# Altium schematic symbol library RT_PC104-M7.SchLib: 50 symbols
Pins are listed as number, name and electrical type; pins without a type are passive.

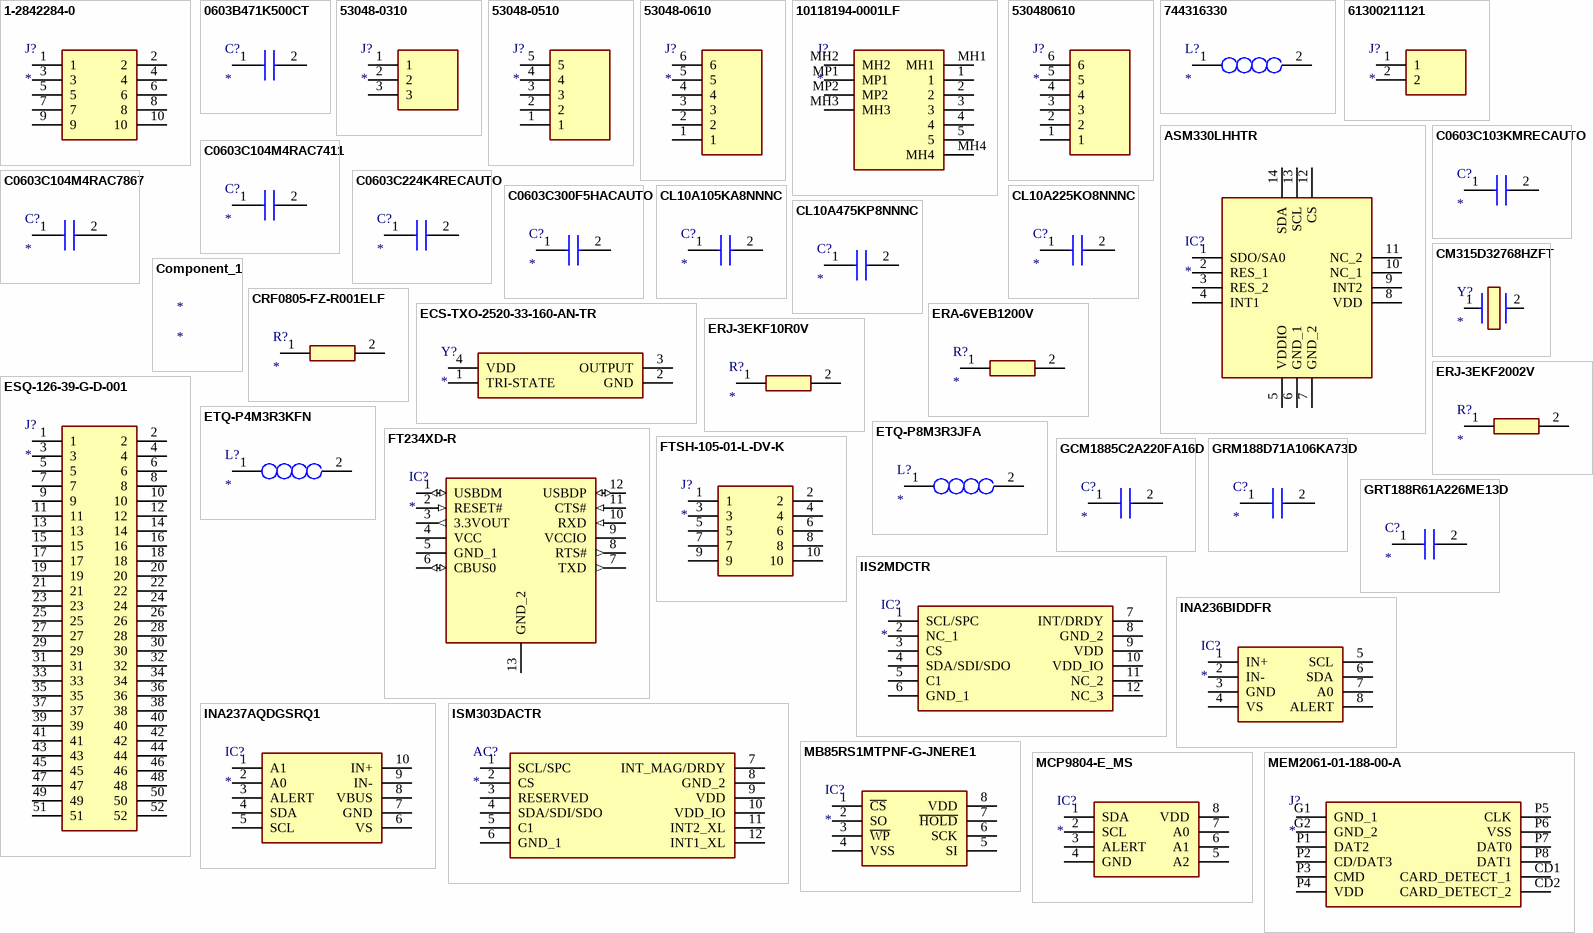
[diagram p0: symbols 1-2842284-0 to MEM2061-01-188-00-A]

## 1-2842284-0
designator J?
Connector; Manufacturer_Name: TE Connectivity; Manufacturer_Part_Number: 1-2842284-0; Datasheet Link: https://www.te.com/commerce/DocumentDelivery/DDEController?Action=showdoc&DocId=Customer+Drawing%7F2842284%7FA1%7Fpdf%7FEnglish%7FENG_CD_2842284_A1.pdf%7F1-2842284-0; Height: 6.25mm; Mouser Part Number: 571-1-2842284-0; Mouser Price/Stock: https://www.mouser.co.uk/ProductDetail/TE-Connectivity/1-2842284-0?qs=hWgE7mdIu5QFpUlt0%2FPFKA%3D%3D
footprint 128422840
pins: 1, 2, 3, 4, 5, 6, 7, 8, 9, 10

## 0603B471K500CT
designator C?
Capacitor; Manufacturer_Name: Walsin Technology Corporation; Manufacturer_Part_Number: 0603B471K500CT; Datasheet Link: https://g.componentsearchengine.com/Datasheets/2/0603B471K500CT.pdf; Height: 0.87mm; Arrow Part Number: 0603B471K500CT; Arrow Price/Stock: https://www.arrow.com/en/products/0603b471k500ct/walsin-technology
footprint CAPC1608X87N
pins: 1, 2

## 53048-0310
designator J?
Connector; Manufacturer_Name: Molex; Manufacturer_Part_Number: 53048-0310; Datasheet Link: https://www.molex.com/pdm_docs/sd/530481010_sd.pdf; Height: 3.5mm; Mouser Part Number: 538-53048-0310; Mouser Price/Stock: https://www.mouser.co.uk/ProductDetail/Molex/53048-0310?qs=zXrbR4Jv0OfUlEeVnlaifA%3D%3D
footprint SHDRRA3W35P0X125_1X3_550X550X350P
pins: 1, 2, 3

## 53048-0510
designator J?
Connector; Manufacturer_Name: Molex; Manufacturer_Part_Number: 53048-0510; Datasheet Link: https://componentsearchengine.com/Datasheets/2/53048-0510.pdf; Height: 3.7mm; Mouser Part Number: 538-53048-0510; Mouser Price/Stock: https://www.mouser.co.uk/ProductDetail/Molex/53048-0510?qs=nn26K2WaEYvXrn%2FdgEEqtg%3D%3D
footprint 530480510
pins: 1, 2, 3, 4, 5

## 53048-0610
designator J?
Connector; Manufacturer_Name: Molex; Manufacturer_Part_Number: 53048-0610; Datasheet Link: https://www.molex.com/pdm_docs/sd/530480610_sd.pdf; Height: 3.7mm; Mouser Part Number: 538-53048-0610; Mouser Price/Stock: https://www.mouser.co.uk/ProductDetail/Molex/53048-0610?qs=4XSMV6Twtb0hBXTOEHM3BQ%3D%3D; Arrow Part Number: 53048-0610; Arrow Price/Stock: https://www.arrow.com/en/products/53048-0610/molex?region=nac
footprint 530480610
pins: 1, 2, 3, 4, 5, 6

## 10118194-0001LF
designator J?
Connector; Manufacturer_Name: Amphenol Communications Solutions; Manufacturer_Part_Number: 10118194-0001LF; Datasheet Link: https://www.amphenol-cs.com/micro-usb-101181940001lf.html; Height: 3.25mm; Arrow Part Number: 10118194-0001LF; Arrow Price/Stock: https://www.arrow.com/en/products/10118194-0001lf/amphenol-fci?region=europe
footprint 101181940001LF
pins: 1, 2, 3, 4, 5, MH1, MH2, MH3, MH4, MP1, MP2

## 530480610
designator J?
Connector; Manufacturer_Name: Molex; Manufacturer_Part_Number: 530480610; Description: 1.25mm Pitch; Datasheet Link: https://www.molex.com/pdm_docs/sd/530480210_sd.pdf; Height: 3.5mm
footprint 530480610
pins: 1, 2, 3, 4, 5, 6

## 744316330
designator L?
Inductor; Manufacturer_Name: Wurth Elektronik; Manufacturer_Part_Number: 744316330; Datasheet Link: https://componentsearchengine.com/Datasheets/1/744316330.pdf; Height: 4.3mm; Mouser Part Number: 710-744316330; Mouser Price/Stock: https://www.mouser.co.uk/ProductDetail/Wurth-Elektronik/744316330?qs=%252B7BPNfeNhvX5azP5TkUELg%3D%3D
footprint INDPM5653X430N
pins: 1, 2

## 61300211121
designator J?
Connector; Manufacturer_Name: Wurth Elektronik; Manufacturer_Part_Number: 61300211121; Datasheet Link: https://componentsearchengine.com/Datasheets/2/61300211121.pdf; Height: 8.54mm; Mouser Part Number: 710-61300211121; Mouser Price/Stock: https://www.mouser.co.uk/ProductDetail/Wurth-Elektronik/61300211121?qs=t4813l51qx%252B1A5GYDQxPlw%3D%3D
footprint HDRV2W110P0X254_1X2_508X254X854P
pins: 1, 2

## ASM330LHHTR
designator IC?
Integrated Circuit; Manufacturer_Name: STMicroelectronics; Manufacturer_Part_Number: ASM330LHHTR; Datasheet Link: https://www.st.com/resource/en/datasheet/asm330lhh.pdf; Mouser Part Number: 511-ASM330LHHTR; Mouser Price/Stock: https://www.mouser.co.uk/ProductDetail/STMicroelectronics/ASM330LHHTR?qs=lc2O%252BfHJPVYgP8P9MzExKQ%3D%3D; Arrow Part Number: ASM330LHHTR; Arrow Price/Stock: https://www.arrow.com/en/products/asm330lhhtr/stmicroelectronics?region=nac
footprint LGA-14(2.5X3X0.86)
pins: 1 SDO/SA0, 2 RES_1, 3 RES_2, 4 INT1, 5 VDDIO, 6 GND_1, 7 GND_2, 8 VDD, 9 INT2, 10 NC_1, 11 NC_2, 12 CS, 13 SCL, 14 SDA

## C0603C103KMRECAUTO
designator C?
Capacitor; Manufacturer_Name: KEMET; Manufacturer_Part_Number: C0603C103KMRECAUTO; Datasheet Link: https://content.kemet.com/datasheets/KEM_C1090_X7R_ESD.pdf; Height: 0.87mm; Mouser Part Number: 80-C0603C103KMREAUTO; Mouser Price/Stock: https://www.mouser.co.uk/ProductDetail/KEMET/C0603C103KMRECAUTO?qs=u4fy%2FsgLU9P0r6p3bzZgfw%3D%3D; Arrow Part Number: C0603C103KMRECAUTO; Arrow Price/Stock: https://www.arrow.com/en/products/c0603c103kmrecauto/kemet-corporation?region=nac
footprint C0603
pins: 1, 2

## C0603C104M4RAC7411
designator C?
Capacitor; Manufacturer_Name: KEMET; Manufacturer_Part_Number: C0603C104M4RAC7411; Datasheet Link: https://content.kemet.com/datasheets/KEM_C1002_X7R_SMD.pdf; Height: 0.87mm; Mouser Part Number: 80-C0603C104M4R7411; Mouser Price/Stock: https://www.mouser.co.uk/ProductDetail/KEMET/C0603C104M4RAC7411?qs=jZ42y6hXG8kO8%252BQPc1qCZg%3D%3D; Arrow Part Number: C0603C104M4RAC7411; Arrow Price/Stock: https://www.arrow.com/en/products/c0603c104m4rac7411/kemet-corporation?region=nac
footprint C0603
pins: 1, 2

## C0603C104M4RAC7867
designator C?
Capacitor; Manufacturer_Name: KEMET; Manufacturer_Part_Number: C0603C104M4RAC7867; Datasheet Link: https://www.arrow.com/en/products/c0603c104m4rac7867/kemet-corporation?region=nac; Height: 0.95mm; Mouser Part Number: N/A; Mouser Price/Stock: https://www.mouser.co.uk/ProductDetail/KEMET/C0603C104M4RAC7867?qs=nAEW9fCjKd%252BI998RVtZhZQ%3D%3D; Arrow Part Number: C0603C104M4RAC7867; Arrow Price/Stock: https://www.arrow.com/en/products/c0603c104m4rac7867/kemet-corporation?region=europe
footprint CAPC1608X95N
pins: 1, 2

## C0603C224K4RECAUTO
designator C?
Capacitor; Manufacturer_Name: KEMET; Manufacturer_Part_Number: C0603C224K4RECAUTO; Datasheet Link: https://content.kemet.com/datasheets/KEM_C1090_X7R_ESD.pdf; Height: 0.87mm; Mouser Part Number: 80-C0603C224K4RECAUT; Mouser Price/Stock: https://www.mouser.co.uk/ProductDetail/KEMET/C0603C224K4RECAUTO?qs=MLItCLRbWszB36u3S8vAZQ%3D%3D; Arrow Part Number: C0603C224K4RECAUTO; Arrow Price/Stock: https://www.arrow.com/en/products/c0603c224k4recauto/kemet-corporation
footprint C0603
pins: 1, 2

## C0603C300F5HACAUTO
designator C?
Capacitor; Manufacturer_Name: KEMET; Manufacturer_Part_Number: C0603C300F5HACAUTO; Datasheet Link: https://content.kemet.com/datasheets/KEM_C1007_X8R_ULTRA_150C_SMD.pdf; Height: 0.87mm; Mouser Part Number: 80-C0603C300F5HAUTO; Mouser Price/Stock: https://www.mouser.com/Search/Refine.aspx?Keyword=80-C0603C300F5HAUTO
footprint C0603
pins: 1, 2

## CL10A105KA8NNNC
designator C?
Capacitor; Manufacturer_Name: SAMSUNG; Manufacturer_Part_Number: CL10A105KA8NNNC; Datasheet Link: http://uk.rs-online.com/web/p/products/7664838; Height: 0.9mm; Mouser Part Number: 187-CL10A105KA8NNNC; Mouser Price/Stock: https://www.mouser.co.uk/ProductDetail/Samsung-Electro-Mechanics/CL10A105KA8NNNC?qs=hqM3L16%252BxldY%252BnK4KzDJVg%3D%3D; Arrow Part Number: CL10A105KA8NNNC; Arrow Price/Stock: https://www.arrow.com/en/products/cl10a105ka8nnnc/samsung-electro-mechanics?region=europe
footprint CAPC1608X90N
pins: 1, 2

## CL10A225KO8NNNC
designator C?
Capacitor; Manufacturer_Name: SAMSUNG; Manufacturer_Part_Number: CL10A225KO8NNNC; Datasheet Link: https://lcsc.componentsearchengine.com/Datasheets/2/CL10A225KO8NNNC.pdf; Height: 0.9mm; Mouser Part Number: 187-CL10A225KO8NNNC; Mouser Price/Stock: https://www.mouser.co.uk/ProductDetail/Samsung-Electro-Mechanics/CL10A225KO8NNNC?qs=hqM3L16%252BxlecoJxUp5hKOw%3D%3D; Arrow Part Number: CL10A225KO8NNNC; Arrow Price/Stock: https://www.arrow.com/en/products/cl10a225ko8nnnc/samsung-electro-mechanics?region=nac
footprint CAPC1608X90N
pins: 1, 2

## CL10A475KP8NNNC
designator C?
Capacitor; Manufacturer_Name: SAMSUNG; Manufacturer_Part_Number: CL10A475KP8NNNC; Datasheet Link: https://www.arrow.com/en/products/cl10a475kp8nnnc/samsung-electro-mechanics; Height: 0.9mm; Mouser Part Number: 187-CL10A475KP8NNNC; Mouser Price/Stock: https://www.mouser.co.uk/ProductDetail/Samsung-Electro-Mechanics/CL10A475KP8NNNC?qs=hqM3L16%252BxlfQRmkWsZz5vA%3D%3D; Arrow Part Number: CL10A475KP8NNNC; Arrow Price/Stock: https://www.arrow.com/en/products/cl10a475kp8nnnc/samsung-electro-mechanics?region=europe
footprint CAPC1608X90N
pins: 1, 2

## CM315D32768HZFT
designator Y?
Crystal or Oscillator; Manufacturer_Name: CITIZEN FINEDEVICE; Manufacturer_Part_Number: CM315D32768HZFT; Datasheet Link: http://cfd.citizen.co.jp/cms/cfd/pdf/english/CM315D_E.pdf; Height: 0.9mm; Mouser Part Number: N/A; Mouser Price/Stock: https://www.mouser.co.uk/ProductDetail/Citizen-FineDevice/CM315D32768HZFT?qs=wnTfsH77Xs4JnKs4SU5%252Bgw%3D%3D
footprint CM315D32768HZFT
pins: 1, 2

## Component_1
designator *

## CRF0805-FZ-R001ELF
designator R?
Resistor; Manufacturer_Name: Bourns; Manufacturer_Part_Number: CRF0805-FZ-R001ELF; Datasheet Link: https://www.bourns.com/docs/product-datasheets/CRF.pdf; Height: 0.8mm; Mouser Part Number: 652-CRF0805FZR001ELF; Mouser Price/Stock: https://www.mouser.co.uk/ProductDetail/Bourns/CRF0805-FZ-R001ELF?qs=t7xnP681wgV0AIQaUselMQ%3D%3D; Arrow Part Number: CRF0805-FZ-R001ELF; Arrow Price/Stock: https://www.arrow.com/en/products/crf0805-fz-r001elf/bourns?region=nac
footprint RESC2012X80N
pins: 1, 2

## ECS-TXO-2520-33-160-AN-TR
designator Y?
Crystal or Oscillator; Manufacturer_Name: ECS; Manufacturer_Part_Number: ECS-TXO-2520-33-160-AN-TR; Datasheet Link: https://ecsxtal.com/store/pdf/ECS-TXO-2520.pdf; Height: 1mm; Mouser Part Number: 520-T2520-33-160-ANT; Mouser Price/Stock: https://www.mouser.co.uk/ProductDetail/ECS/ECS-TXO-2520-33-160-AN-TR?qs=KAq9QXcE8HAE1gcf2ozR9w%3D%3D; Arrow Part Number: ECS-TXO-2520-33-160-AN-TR; Arrow Price/Stock: https://www.arrow.com/en/products/ecs-txo-2520-33-160-an-tr/ecs-international?region=nac
footprint ECSTXO252033160ANTR
pins: 1 TRI-STATE, 2 GND, 3 OUTPUT, 4 VDD

## ERA-6VEB1200V
designator R?
Resistor; Manufacturer_Name: Panasonic; Manufacturer_Part_Number: ERA-6VEB1200V; Datasheet Link: http://industrial.panasonic.com/cdbs/www-data/pdf/RDM0000/RDM0000C331.pdf; Height: 0.65mm; Mouser Part Number: 667-ERA-6VEB1200V; Mouser Price/Stock: https://www.mouser.co.uk/ProductDetail/Panasonic/ERA-6VEB1200V?qs=rI7uf1IzohQDwVDMjI%252BQDA%3D%3D; Arrow Part Number: ERA-6VEB1200V; Arrow Price/Stock: https://www.arrow.com/en/products/era-6veb1200v/panasonic?region=nac
footprint ERA6VK
pins: 1, 2

## ERJ-3EKF10R0V
designator R?
Resistor; Manufacturer_Name: Panasonic; Manufacturer_Part_Number: ERJ-3EKF10R0V; Datasheet Link: http://industrial.panasonic.com/cdbs/www-data/pdf/RDA0000/AOA0000C86.pdf; Height: 0.55mm; Mouser Part Number: 667-ERJ-3EKF10R0V; Mouser Price/Stock: https://www.mouser.co.uk/ProductDetail/Panasonic/ERJ-3EKF10R0V?qs=Y94Hbc6uvEMT73hhx3Gvwg%3D%3D; Arrow Part Number: ERJ-3EKF10R0V; Arrow Price/Stock: https://www.arrow.com/en/products/erj-3ekf10r0v/panasonic?region=nac
footprint RESC1608X55N
pins: 1, 2

## ERJ-3EKF2002V
designator R?
Resistor; Manufacturer_Name: Panasonic; Manufacturer_Part_Number: ERJ-3EKF2002V; Datasheet Link: http://industrial.panasonic.com/cdbs/www-data/pdf/RDA0000/AOA0000C86.pdf; Height: 0.55mm; Mouser Part Number: 667-ERJ-3EKF2002V; Mouser Price/Stock: https://www.mouser.co.uk/ProductDetail/Panasonic/ERJ-3EKF2002V?qs=66DK8nO8gJB3y0uxig0mNg%3D%3D; Arrow Part Number: ERJ-3EKF2002V; Arrow Price/Stock: https://www.arrow.com/en/products/erj-3ekf2002v/panasonic?region=europe
footprint RESC1608X55N
pins: 1, 2

## ESQ-126-39-G-D-001
designator J?
Connector; Manufacturer_Name: SAMTEC; Manufacturer_Part_Number: ESQ-126-39-G-D-001; Datasheet Link: http://suddendocs.samtec.com/catalog_english/esq_th.pdf; Height: 11.35mm; Mouser Part Number: 200-ESQ12639GD001; Mouser Price/Stock: https://www.mouser.co.uk/ProductDetail/Samtec/ESQ-126-39-G-D-001?qs=PB6%2FjmICvI2K%2FCIgL4SVbg%3D%3D
footprint RHDR52W64P254_2X26_6654X495X1135P
pins: 1, 2, 3, 4, 5, 6, 7, 8, 9, 10, 11, 12, 13, 14, 15, 16, 17, 18, 19, 20, 21, 22, 23, 24, 25, 26, 27, 28, 29, 30, 31, 32, 33, 34, 35, 36, 37, 38, 39, 40, 41, 42, 43, 44, 45, 46, 47, 48, 49, 50, 51, 52

## ETQ-P4M3R3KFN
designator L?
Inductor; Manufacturer_Name: Panasonic; Manufacturer_Part_Number: ETQ-P4M3R3KFN; Datasheet Link: http://industrial.panasonic.com/cdbs/www-data/pdf/AGL0000/AGL0000C73.pdf; Height: 4.8mm; Mouser Part Number: 667-ETQ-P4M3R3KFN; Mouser Price/Stock: https://www.mouser.co.uk/ProductDetail/Panasonic/ETQ-P4M3R3KFN?qs=PqoDHHvF64%252BtqBS9GGMoRg%3D%3D; Arrow Part Number: ETQ-P4M3R3KFN; Arrow Price/Stock: https://www.arrow.com/en/products/etq-p4m3r3kfn/panasonic?region=nac
footprint ETQ-P4M_KFN
pins: 1, 2

## ETQ-P8M3R3JFA
designator L?
Inductor; Manufacturer_Name: Panasonic; Manufacturer_Part_Number: ETQ-P8M3R3JFA; Datasheet Link: http://industrial.panasonic.com/cdbs/www-data/pdf/AGL0000/AGL0000C61.pdf; Mouser Part Number: 667-ETQ-P8M3R3JFA; Mouser Price/Stock: https://www.mouser.co.uk/ProductDetail/Panasonic/ETQ-P8M3R3JFA?qs=xhbEVWpZdWf1xprl%252BUofWA%3D%3D; Arrow Part Number: ETQ-P8M3R3JFA; Arrow Price/Stock: https://www.arrow.com/en/products/etq-p8m3r3jfa/panasonic?region=nac
footprint ETQP8
pins: 1, 2

## FT234XD-R
designator IC?
Integrated Circuit; Manufacturer_Name: FTDI Chip; Manufacturer_Part_Number: FT234XD-R; Datasheet Link: https://componentsearchengine.com/Datasheets/2/FT234XD-R.pdf; Height: 0.75mm; Mouser Part Number: 895-FT234XD-R; Mouser Price/Stock: https://www.mouser.co.uk/ProductDetail/FTDI/FT234XD-R?qs=NVftvxkm2tjipk322Ah1HQ%3D%3D; Arrow Part Number: FT234XD-R; Arrow Price/Stock: https://www.arrow.com/en/products/ft234xd-r/ftdi-chip?region=nac
footprint SON45P300X300X75-13N-D
pins: 1 USBDM (io), 2 RESET# (in), 3 3.3VOUT (out), 4 VCC (power), 5 GND_1 (power), 6 CBUS0 (io), 7 TXD (out), 8 RTS# (out), 9 VCCIO (power), 10 RXD (in), 11 CTS# (in), 12 USBDP (io), 13 GND_2 (power)

## FTSH-105-01-L-DV-K
designator J?
Connector; Manufacturer_Name: SAMTEC; Manufacturer_Part_Number: FTSH-105-01-L-DV-K; Datasheet Link: https://www.arrow.com/en/products/ftsh-105-01-l-dv-k/samtec; Height: 6.1mm; Mouser Part Number: 200-FTSH10501LDVK; Mouser Price/Stock: https://www.mouser.co.uk/ProductDetail/Samtec/FTSH-105-01-L-DV-K?qs=%252B5JSS813miOqo3Vy%252BvhCFg%3D%3D; Arrow Part Number: FTSH-105-01-L-DV-K; Arrow Price/Stock: https://www.arrow.com/en/products/ftsh-105-01-l-dv-k/samtec?region=europe
footprint FTSH10501LDVK
pins: 1, 2, 3, 4, 5, 6, 7, 8, 9, 10

## GCM1885C2A220FA16D
designator C?
Capacitor; Manufacturer_Name: Murata Electronics; Manufacturer_Part_Number: GCM1885C2A220FA16D; Datasheet Link: https://www.murata.com/en-global/api/pdfdownloadapi?cate=luCeramicCapacitorsSMD&partno=GCM1885C2A220FA16%23; Height: 0.9mm
footprint CAPC1608X90N
pins: 1, 2

## GRM188D71A106KA73D
designator C?
Capacitor; Manufacturer_Name: Murata Electronics; Manufacturer_Part_Number: GRM188D71A106KA73D; Datasheet Link: https://psearch.en.murata.com/capacitor/product/GRM188D71A106KA73%23.html; Height: 0.9mm; Mouser Part Number: 81-GRM188D71A106KA3D; Mouser Price/Stock: https://www.mouser.co.uk/ProductDetail/Murata-Electronics/GRM188D71A106KA73D?qs=FvQ4nYu%252B2He2GIhYKxXmMQ%3D%3D; Arrow Part Number: GRM188D71A106KA73D; Arrow Price/Stock: https://www.arrow.com/en/products/grm188d71a106ka73d/murata-manufacturing?region=nac
footprint CAPC1608X90N
pins: 1, 2

## GRT188R61A226ME13D
designator C?
Capacitor; Manufacturer_Name: Murata Electronics; Manufacturer_Part_Number: GRT188R61A226ME13D; Datasheet Link: https://psearch.en.murata.com/capacitor/product/GRT188R61A226ME13%23.html; Height: 0.9mm; Mouser Part Number: 81-GRT188R61A226ME13; Mouser Price/Stock: https://www.mouser.co.uk/ProductDetail/Murata-Electronics/GRT188R61A226ME13D?qs=rrS6PyfT74d5NiMXLiYh8Q%3D%3D; Arrow Part Number: GRT188R61A226ME13D; Arrow Price/Stock: https://www.arrow.com/en/products/grt188r61a226me13d/murata-manufacturing?region=nac
footprint CAPC1608X90N
pins: 1, 2

## IIS2MDCTR
designator IC?
Integrated Circuit; Manufacturer_Name: STMicroelectronics; Manufacturer_Part_Number: IIS2MDCTR; Datasheet Link: https://www.st.com/resource/en/datasheet/iis2mdc.pdf; Height: 0.7mm; Mouser Part Number: 511-IIS2MDCTR; Mouser Price/Stock: https://www.mouser.co.uk/ProductDetail/STMicroelectronics/IIS2MDCTR?qs=1mbolxNpo8ems1K%2FRdQzXg%3D%3D; Arrow Part Number: IIS2MDCTR; Arrow Price/Stock: https://www.arrow.com/en/products/iis2mdctr/stmicroelectronics?region=nac
footprint IIS2MDCTR
pins: 1 SCL/SPC, 2 NC_1, 3 CS, 4 SDA/SDI/SDO, 5 C1, 6 GND_1, 7 INT/DRDY, 8 GND_2, 9 VDD, 10 VDD_IO, 11 NC_2, 12 NC_3

## INA236BIDDFR
designator IC?
Integrated Circuit; Manufacturer_Name: Texas Instruments; Manufacturer_Part_Number: INA236BIDDFR; Datasheet Link: https://www.ti.com/general/docs/suppproductinfo.tsp?distId=26&gotoUrl=https://www.ti.com/lit/gpn/ina236; Height: 1.1mm; Mouser Part Number: 595-INA236BIDDFR; Mouser Price/Stock: https://www.mouser.co.uk/ProductDetail/Texas-Instruments/INA236BIDDFR?qs=17ckDYBRdelpXu8anct71w%3D%3D
footprint SOT65P280X110-8N
pins: 1 IN+, 2 IN-, 3 GND, 4 VS, 5 SCL, 6 SDA, 7 A0, 8 ALERT

## INA237AQDGSRQ1
designator IC?
Integrated Circuit; Manufacturer_Name: Texas Instruments; Manufacturer_Part_Number: INA237AQDGSRQ1; Datasheet Link: https://www.ti.com/lit/ds/symlink/ina237-q1.pdf?ts=1625619121802; Height: 1.1mm; Mouser Part Number: 595-INA237AQDGSRQ1; Mouser Price/Stock: https://www.mouser.co.uk/ProductDetail/Texas-Instruments/INA237AQDGSRQ1?qs=QNEnbhJQKvZMdvZTHxOefQ%3D%3D; Arrow Part Number: INA237AQDGSRQ1; Arrow Price/Stock: https://www.arrow.com/en/products/ina237aqdgsrq1/texas-instruments?region=nac
footprint SOP50P490X110-10N
pins: 1 A1, 2 A0, 3 ALERT, 4 SDA, 5 SCL, 6 VS, 7 GND, 8 VBUS, 9 IN-, 10 IN+

## ISM303DACTR
designator AC?
Accelerometer; Manufacturer_Name: STMicroelectronics; Manufacturer_Part_Number: ISM303DACTR; Datasheet Link: https://www.st.com/resource/en/datasheet/ism303dac.pdf; Height: 0.7mm; Mouser Part Number: 511-ISM303DACTR; Mouser Price/Stock: https://www.mouser.co.uk/ProductDetail/STMicroelectronics/ISM303DACTR?qs=wd5RIQLrsJgGkH7x5KMXGg%3D%3D; Arrow Part Number: ISM303DACTR; Arrow Price/Stock: https://www.arrow.com/en/products/ism303dactr/stmicroelectronics
footprint IIS2MDCTR
pins: 1 SCL/SPC, 2 CS, 3 RESERVED, 4 SDA/SDI/SDO, 5 C1, 6 GND_1, 7 INT_MAG/DRDY, 8 GND_2, 9 VDD, 10 VDD_IO, 11 INT2_XL, 12 INT1_XL

## MB85RS1MTPNF-G-JNERE1
designator IC?
Integrated Circuit; Manufacturer_Name: FUJITSU; Manufacturer_Part_Number: MB85RS1MTPNF-G-JNERE1; Datasheet Link: https://www.fujitsu.com/us/Images/MB85RS1MT-DS501-00022-2v0-E.pdf; Height: 1.75mm; Mouser Part Number: 249-85S1MTPNFGJNERE1; Mouser Price/Stock: https://www.mouser.co.uk/ProductDetail/Fujitsu-Semiconductor/MB85RS1MTPNF-G-JNERE1?qs=HBWAp0VN4Rhzv67G8JdVdQ%3D%3D
footprint SOIC127P600X175-8N
pins: 1 ~{CS}, 2 SO, 3 ~{WP}, 4 VSS, 5 SI, 6 SCK, 7 ~{HOLD}, 8 VDD

## MCP9804-E_MS
designator IC?
Integrated Circuit; Manufacturer_Name: Microchip; Manufacturer_Part_Number: MCP9804-E/MS; Datasheet Link: http://ww1.microchip.com/downloads/en/DeviceDoc/22203C.pdf; Height: 1.1mm; Mouser Part Number: 579-MCP9804-E/MS; Mouser Price/Stock: https://www.mouser.co.uk/ProductDetail/Microchip-Technology-Atmel/MCP9804-E-MS?qs=AzWaBQTUlgwto0lQwcuMoQ%3D%3D; Arrow Part Number: MCP9804-E/MS; Arrow Price/Stock: https://www.arrow.com/en/products/mcp9804-ems/microchip-technology?region=nac
footprint SOP65P490X110-8N
pins: 1 SDA, 2 SCL, 3 ALERT, 4 GND, 5 A2, 6 A1, 7 A0, 8 VDD

## MEM2061-01-188-00-A
designator J?
Connector; Manufacturer_Name: GLOBAL CONNECTOR TECHNOLOGY; Manufacturer_Part_Number: MEM2061-01-188-00-A; Datasheet Link: https://gct.co/files/drawings/mem2061.pdf?v=db251ddb-1946-4f24-aa19-b8a17901bdd2; Height: 2.13mm
footprint MEM20610118800A
pins: CD1 CARD_DETECT_1, CD2 CARD_DETECT_2, G1 GND_1, G2 GND_2, P1 DAT2, P2 CD/DAT3, P3 CMD, P4 VDD, P5 CLK, P6 VSS, P7 DAT0, P8 DAT1

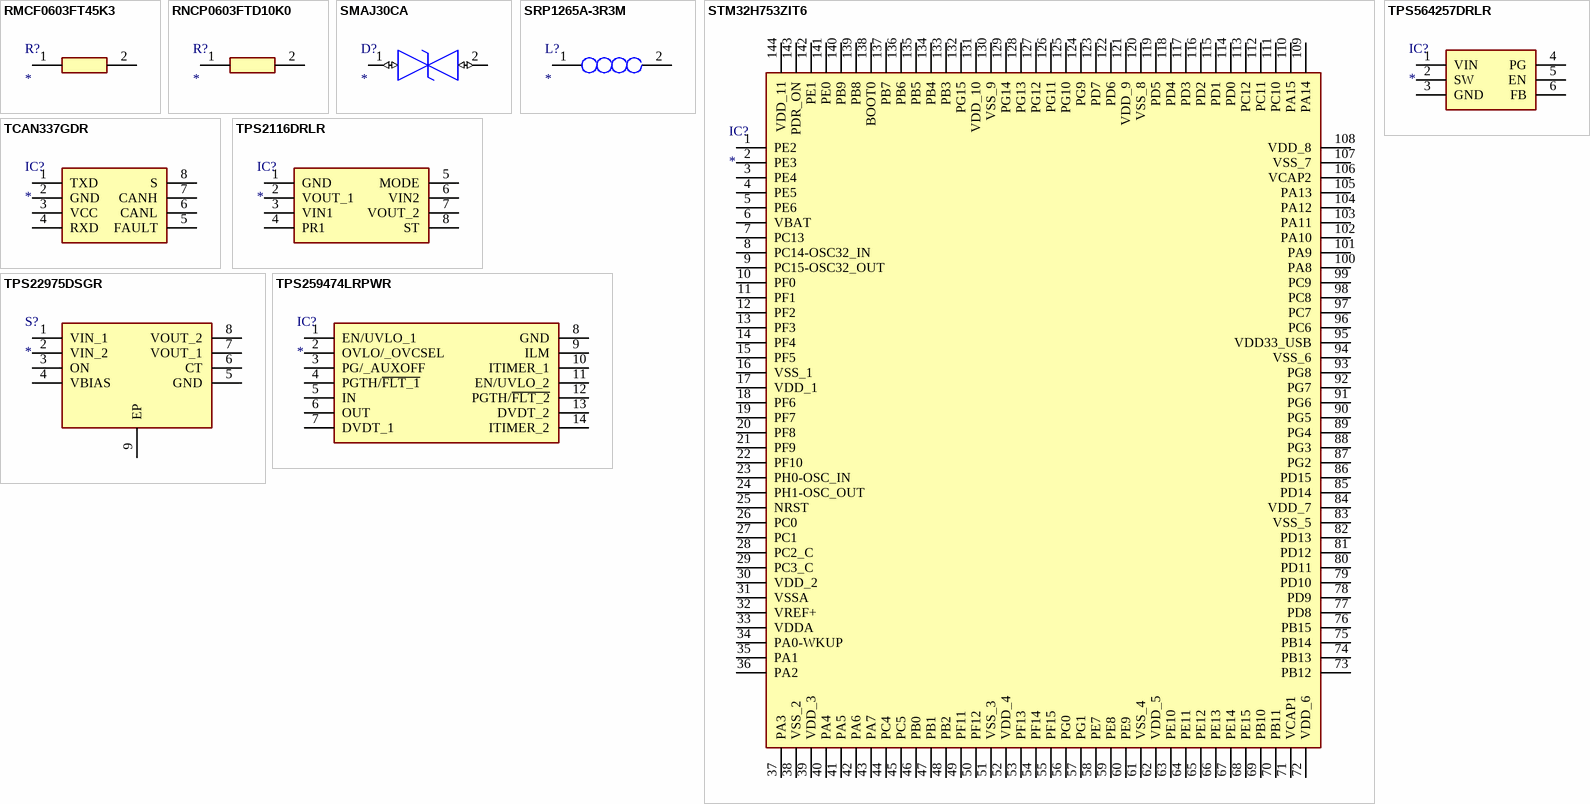
[diagram p1: symbols RMCF0603FT45K3 to TPS564257DRLR]

## RMCF0603FT45K3
designator R?
Resistor; Manufacturer_Name: Stackpole Electronics; Manufacturer_Part_Number: RMCF0603FT45K3; Datasheet Link: https://www.seielect.com/Catalog/SEI-RMCF_RMCP.pdf; Height: 0.55mm; Arrow Part Number: RMCF0603FT45K3; Arrow Price/Stock: https://www.arrow.com/en/products/rmcf0603ft45k3/stackpole-electronics
footprint RESC1608X55N
pins: 1, 2

## RNCP0603FTD10K0
designator R?
Resistor; Manufacturer_Name: Stackpole Electronics; Manufacturer_Part_Number: RNCP0603FTD10K0; Datasheet Link: https://cs.seielect.com/catalog/SEI-RNCP.pdf; Height: 0.5mm; Mouser Part Number: 708-RNCP0603FTD10K0; Mouser Price/Stock: https://www.mouser.co.uk/ProductDetail/SEI-Stackpole/RNCP0603FTD10K0?qs=FESYatJ8odL1jmHQSpKOPg%3D%3D; Arrow Part Number: RNCP0603FTD10K0; Arrow Price/Stock: https://www.arrow.com/en/products/rncp0603ftd10k0/stackpole-electronics?region=nac
footprint RESC1508X50N
pins: 1, 2

## SMAJ30CA
designator D?
TVS Diode (Bi-directional); Manufacturer_Name: LITTELFUSE; Manufacturer_Part_Number: SMAJ30CA; Datasheet Link: https://www.mouser.se/datasheet/2/240/Littelfuse_TVS_Diode_SMAJ_Datasheet.pdf-540740.pdf; Height: 2.29mm; Mouser Part Number: 576-SMAJ30CA; Mouser Price/Stock: https://www.mouser.co.uk/ProductDetail/Littelfuse/SMAJ30CA?qs=HR2RnyOI4E7JQai5qAA1IA%3D%3D; Arrow Part Number: SMAJ30CA; Arrow Price/Stock: https://www.arrow.com/en/products/smaj30ca/littelfuse?region=nac
footprint DIONM5026X229N
pins: 1 (io), 2 (io)

## SRP1265A-3R3M
designator L?
Inductor; Manufacturer_Name: Bourns; Manufacturer_Part_Number: SRP1265A-3R3M; Datasheet Link: https://www.bourns.com/data/global/pdfs/SRP1265A.pdf; Height: 6.5mm; Mouser Part Number: 652-SRP1265A-3R3M; Mouser Price/Stock: https://www.mouser.co.uk/ProductDetail/Bourns/SRP1265A-3R3M?qs=7z%252BmIopC6%2FKn2Zz%252BiwrXSg%3D%3D; Arrow Part Number: SRP1265A-3R3M; Arrow Price/Stock: https://www.arrow.com/en/products/srp1265a-3r3m/bourns?region=nac
footprint INDPM135125X650N
pins: 1, 2

## STM32H753ZIT6
designator IC?
Integrated Circuit; Manufacturer_Name: STMicroelectronics; Manufacturer_Part_Number: STM32H753ZIT6; Datasheet Link: http://www.st.com/content/ccc/resource/technical/document/datasheet/group3/01/21/00/39/12/c9/4c/f1/DM00388325/files/DM00388325.pdf/jcr:content/translations/en.DM00388325.pdf; Height: 1.6mm; Mouser Part Number: 511-STM32H753ZIT6; Mouser Price/Stock: https://www.mouser.co.uk/ProductDetail/STMicroelectronics/STM32H753ZIT6?qs=u4fy%2FsgLU9PzR9vtNNw%2FMw%3D%3D; Arrow Part Number: STM32H753ZIT6; Arrow Price/Stock: https://www.arrow.com/en/products/stm32h753zit6/stmicroelectronics?region=nac
footprint QFP50P2200X2200X160-144N
pins: 1 PE2, 2 PE3, 3 PE4, 4 PE5, 5 PE6, 6 VBAT (power), 7 PC13, 8 PC14-OSC32_IN, 9 PC15-OSC32_OUT, 10 PF0, 11 PF1, 12 PF2, 13 PF3, 14 PF4, 15 PF5, 16 VSS_1 (power), 17 VDD_1 (power), 18 PF6, 19 PF7, 20 PF8, 21 PF9, 22 PF10, 23 PH0-OSC_IN, 24 PH1-OSC_OUT, 25 NRST, 26 PC0, 27 PC1, 28 PC2_C, 29 PC3_C, 30 VDD_2 (power), 31 VSSA (power), 32 VREF+, 33 VDDA (power), 34 PA0-WKUP, 35 PA1, 36 PA2, 37 PA3, 38 VSS_2 (power), 39 VDD_3 (power), 40 PA4, 41 PA5, 42 PA6, 43 PA7, 44 PC4, 45 PC5, 46 PB0, 47 PB1, 48 PB2, 49 PF11, 50 PF12, 51 VSS_3 (power), 52 VDD_4 (power), 53 PF13, 54 PF14, 55 PF15, 56 PG0, 57 PG1, 58 PE7, 59 PE8, 60 PE9, 61 VSS_4 (power), 62 VDD_5 (power), 63 PE10, 64 PE11, 65 PE12, 66 PE13, 67 PE14, 68 PE15, 69 PB10, 70 PB11, 71 VCAP1 (power), 72 VDD_6 (power), 73 PB12, 74 PB13, 75 PB14, 76 PB15, 77 PD8, 78 PD9, 79 PD10, 80 PD11, 81 PD12, 82 PD13, 83 VSS_5 (power), 84 VDD_7 (power), 85 PD14, 86 PD15, 87 PG2, 88 PG3, 89 PG4, 90 PG5, 91 PG6, 92 PG7, 93 PG8, 94 VSS_6 (power), 95 VDD33_USB (power), 96 PC6, 97 PC7, 98 PC8, 99 PC9, 100 PA8, 101 PA9, 102 PA10, 103 PA11, 104 PA12, 105 PA13, 106 VCAP2 (power), 107 VSS_7 (power), 108 VDD_8 (power), 109 PA14, 110 PA15, 111 PC10, 112 PC11, 113 PC12, 114 PD0, 115 PD1, 116 PD2, 117 PD3, 118 PD4, 119 PD5, 120 VSS_8 (power), 121 VDD_9 (power), 122 PD6, 123 PD7, 124 PG9, 125 PG10, 126 PG11, 127 PG12, 128 PG13, 129 PG14, 130 VSS_9 (power), 131 VDD_10 (power), 132 PG15, 133 PB3, 134 PB4, 135 PB5, 136 PB6, 137 PB7, 138 BOOT0, 139 PB8, 140 PB9, 141 PE0, 142 PE1, 143 PDR_ON, 144 VDD_11 (power)

## TCAN337GDR
designator IC?
Integrated Circuit; Manufacturer_Name: Texas Instruments; Manufacturer_Part_Number: TCAN337GDR; Datasheet Link: http://www.ti.com/lit/gpn/tcan337g; Height: 1.75mm; Mouser Part Number: 595-TCAN337GDR; Mouser Price/Stock: https://www.mouser.co.uk/ProductDetail/Texas-Instruments/TCAN337GDR?qs=gMfM3zrbS4qJ%252BEWbPaeUtA%3D%3D; Arrow Part Number: TCAN337GDR; Arrow Price/Stock: https://www.arrow.com/en/products/tcan337gdr/texas-instruments?region=nac
footprint SOIC127P600X175-8N
pins: 1 TXD, 2 GND, 3 VCC, 4 RXD, 5 FAULT, 6 CANL, 7 CANH, 8 S

## TPS2116DRLR
designator IC?
Integrated Circuit; Manufacturer_Name: Texas Instruments; Manufacturer_Part_Number: TPS2116DRLR; Datasheet Link: https://www.ti.com/lit/gpn/tps2116; Height: 0.6mm; Mouser Part Number: 595-TPS2116DRLR; Mouser Price/Stock: https://www.mouser.co.uk/ProductDetail/Texas-Instruments/TPS2116DRLR?qs=aP1CjGhiNiGo3XAyXcVPaQ%3D%3D; Arrow Part Number: TPS2116DRLR; Arrow Price/Stock: https://www.arrow.com/en/products/tps2116drlr/texas-instruments?region=nac
footprint SOTFL50P160X60-8N
pins: 1 GND, 2 VOUT_1, 3 VIN1, 4 PR1, 5 MODE, 6 VIN2, 7 VOUT_2, 8 ST

## TPS22975DSGR
designator S?
Switch; Manufacturer_Name: Texas Instruments; Manufacturer_Part_Number: TPS22975DSGR; Datasheet Link: http://www.ti.com/lit/gpn/tps22975; Height: 0.8mm; Mouser Part Number: 595-TPS22975DSGR; Mouser Price/Stock: https://www.mouser.co.uk/ProductDetail/Texas-Instruments/TPS22975DSGR?qs=zEmsApcVOkXVZ0HZtWdfyQ%3D%3D; Arrow Part Number: TPS22975DSGR; Arrow Price/Stock: https://www.arrow.com/en/products/tps22975dsgr/texas-instruments?region=nac
footprint SON50P200X200X80-9N
pins: 1 VIN_1, 2 VIN_2, 3 ON, 4 VBIAS, 5 GND, 6 CT, 7 VOUT_1, 8 VOUT_2, 9 EP

## TPS259474LRPWR
designator IC?
Integrated Circuit; Manufacturer_Name: Texas Instruments; Manufacturer_Part_Number: TPS259474LRPWR; Datasheet Link: https://www.ti.com/lit/gpn/tps25981; Height: 1mm; Mouser Part Number: 595-TPS259474LRPWR; Mouser Price/Stock: https://www.mouser.co.uk/ProductDetail/Texas-Instruments/TPS259474LRPWR?qs=iLbezkQI%252BsixXidX03eIQA%3D%3D; Arrow Part Number: TPS259474LRPWR; Arrow Price/Stock: https://www.arrow.com/en/products/tps259474lrpwr/texas-instruments?region=nac
footprint TPS259474LRPWR
pins: 1 EN/UVLO_1, 2 OVLO/_OVCSEL, 3 PG/_AUXOFF, 4 PGTH/~{FLT_1}, 5 IN, 6 OUT, 7 DVDT_1, 8 GND, 9 ILM, 10 ITIMER_1, 11 EN/UVLO_2, 12 PGTH/~{FLT_2}, 13 DVDT_2, 14 ITIMER_2

## TPS564257DRLR
designator IC?
Integrated Circuit; Manufacturer_Name: Texas Instruments; Manufacturer_Part_Number: TPS564257DRLR; Datasheet Link: https://www.ti.com/lit/ds/symlink/tps564257.pdf?HQS=dis-mous-null-mousermode-dsf-pf-null-wwe&ts=1695023870951&ref_url=https%253A%252F%252Fwww.mouser.de%252F; Height: 0.6mm; Mouser Part Number: 595-TPS564257DRLR; Mouser Price/Stock: https://www.mouser.co.uk/ProductDetail/Texas-Instruments/TPS564257DRLR?qs=ulEaXIWI0c8amaZvnJWTQQ%3D%3D
footprint SOTFL50P160X60-6N
pins: 1 VIN, 2 SW, 3 GND, 4 PG, 5 EN, 6 FB